# Altium schematic symbol library PN7221EV.SchLib: 1 symbol
Pins are listed as number, name and electrical type; pins without a type are passive.

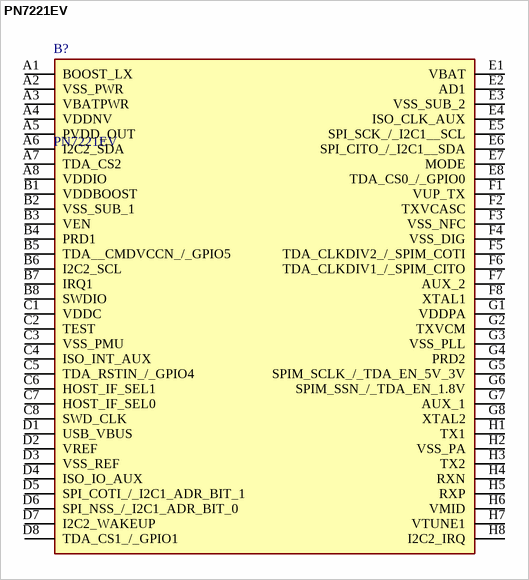
[diagram p0: symbol PN7221EV]

## PN7221EV
designator B?
RFID Reader/Transponder IC 13.56MHz FeliCa, ISO 14443A, ISO 14443B, ISO 15693, Mifare, NFC I2C, SPI, USB 2.4V ~ 5.5V 64-VFBGA; Manufacturer_Name: NXP; Geometry.Height: 0.9mm; Manufacturer_Part_Number: PN7221EV; Mouser Part Number: *; Mouser Price/Stock: *; Arrow Part Number: *; Arrow Price/Stock: *; Datasheet Link: https://www.nxp.com/docs/en/data-sheet/PN7220.pdf
footprint BGA64C50P8X8_450X450X90
pins: A1 BOOST_LX, A2 VSS_PWR, A3 VBATPWR, A4 VDDNV, A5 PVDD_OUT, A6 I2C2_SDA, A7 TDA_CS2, A8 VDDIO, B1 VDDBOOST, B2 VSS_SUB_1, B3 VEN, B4 PRD1, B5 TDA__CMDVCCN_/_GPIO5, B6 I2C2_SCL, B7 IRQ1, B8 SWDIO, C1 VDDC, C2 TEST, C3 VSS_PMU, C4 ISO_INT_AUX, C5 TDA_RSTIN_/_GPIO4, C6 HOST_IF_SEL1, C7 HOST_IF_SEL0, C8 SWD_CLK, D1 USB_VBUS, D2 VREF, D3 VSS_REF, D4 ISO_IO_AUX, D5 SPI_COTI_/_I2C1_ADR_BIT_1, D6 SPI_NSS_/_I2C1_ADR_BIT_0, D7 I2C2_WAKEUP, D8 TDA_CS1_/_GPIO1, E1 VBAT, E2 AD1, E3 VSS_SUB_2, E4 ISO_CLK_AUX, E5 SPI_SCK_/_I2C1__SCL, E6 SPI_CITO_/_I2C1__SDA, E7 MODE, E8 TDA_CS0_/_GPIO0, F1 VUP_TX, F2 TXVCASC, F3 VSS_NFC, F4 VSS_DIG, F5 TDA_CLKDIV2_/_SPIM_COTI, F6 TDA_CLKDIV1_/_SPIM_CITO, F7 AUX_2, F8 XTAL1, G1 VDDPA, G2 TXVCM, G3 VSS_PLL, G4 PRD2, G5 SPIM_SCLK_/_TDA_EN_5V_3V, G6 SPIM_SSN_/_TDA_EN_1.8V, G7 AUX_1, G8 XTAL2, H1 TX1, H2 VSS_PA, H3 TX2, H4 RXN, H5 RXP, H6 VMID, H7 VTUNE1, H8 I2C2_IRQ